# Altium schematic symbol library VGA breakout.SchLib: 3 symbols
Pins are listed as number, name and electrical type; pins without a type are passive.

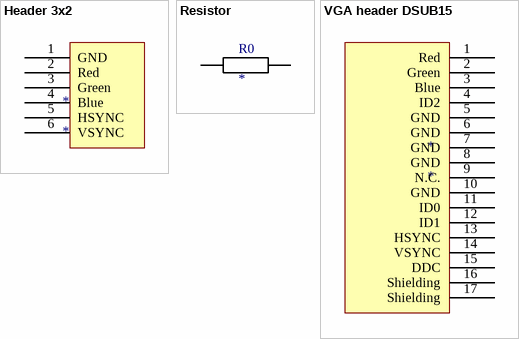
[diagram p0: symbols Header 3x2 to VGA header DSUB15]

## Header 3x2
designator *
pins: 1 GND, 2 Red, 3 Green, 4 Blue, 5 HSYNC, 6 VSYNC

## Resistor
designator R0
pins: 1, 2

## VGA header DSUB15
designator *
pins: 1 Red, 2 Green, 3 Blue, 4 ID2, 5 GND, 6 GND, 7 GND, 8 GND, 9 N.C., 10 GND, 11 ID0, 12 ID1, 13 HSYNC, 14 VSYNC, 15 DDC, 16 Shielding, 17 Shielding